# Altium footprint library AMPTFP2VTR.PcbLib: 1 footprints
Each footprint in its own frame and in the unit in brackets; x right, y up, seen from the top. Pads: shape width x height; smd on the part's side, far side on the other; paste and mask are expansions set on the pad; w line width, h text height; cw(c..) or ccw(c..) is an arc to the next point about the centre after c.
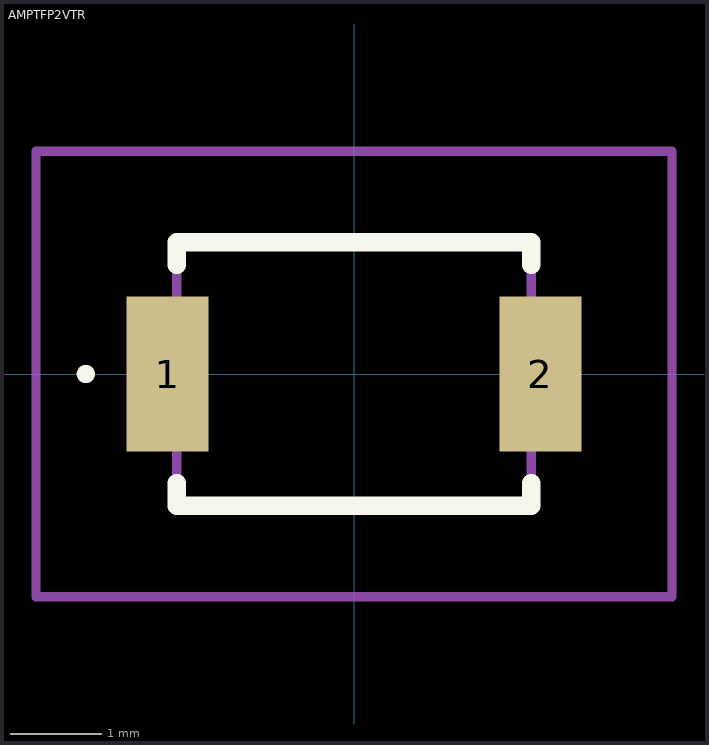
[diagram p0: the footprint, top view; thin cyan lines are the x and y axes]

## AMPTFP2VTR [mm]
pads (2):
  rect 0.9x1.7 smd: 1(-2.05,0) 2(2.05,0)
Top Overlay:
  lines w0.1: -3,0 cw(c-2.95,0) -2.9,0 cw(c-2.95,0) -3,0
  lines w0.2: -1.95,-1.2 -1.95,-1.45 1.95,-1.45 1.95,-1.2 ; -1.95,1.2 -1.95,1.45 1.95,1.45 1.95,1.2
Mechanical 15:
  lines w0.1: -1.95,-1.45 -1.95,1.45 1.95,1.45 1.95,-1.45 -1.95,-1.45
Mechanical 20:
  lines w0.1: -3.5,-2.45 -3.5,2.45 3.5,2.45 3.5,-2.45 -3.5,-2.45
3D body "AMPTFP2VTR.stp": height 1.95, standoff -0.05, extent -2.394,-1.45 2.406,1.45